# Altium schematic symbol library Miscellaneous Others..SchLib: 1 symbol
Pins are listed as number, name and electrical type; pins without a type are passive.

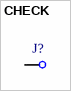
[diagram p0: symbol CHECK]

## CHECK
designator J?  (value not drawn)
测试点
footprint CHECK-A (Connector; Plug)
footprint CHECK-B (Connector; Plug)
pins: 1